# Altium integrated library DX07P024AJ1R1500.IntLib: 1 symbol
Pins are listed as number, name and electrical type; pins without a type are passive.

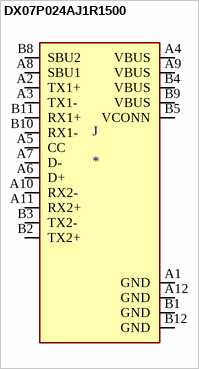
[diagram p0: symbol DX07P024AJ1R1500]

## DX07P024AJ1R1500
designator J
USB-C _USB TYPE-C_ USB 3.1 _USB 3.1 Gen 2, Superspeed+_ Plug Connector 24 Position Board Edge, Straddle Mount; MP: DX07P024AJ1R1500; MF: JAE Electronics; Package: None; Value: *; SnapEDA_Link: https://www.snapeda.com/parts/DX07P024AJ1R1500/JAE%20Electronics/view-part/699541/?ref=snap; Digi-Key_Purchase_URL: https://www.digikey.tw/product-detail/en/jae-electronics/DX07P024AJ1R1500/670-2868-1-ND/6003057?utm_source=snapeda&utm_medium=aggregator&utm_campaign=symbol; Digi-Key_Part_Number: 670-2868-1-ND
footprint JAE_DX07P024AJ1R1500
pins: A1 GND (power), A2 TX1+ (io), A3 TX1- (io), A4 VBUS (power), A5 CC (io), A6 D+ (io), A7 D- (io), A8 SBU1 (io), A9 VBUS (power), A10 RX2- (io), A11 RX2+ (io), A12 GND (power), B1 GND (power), B2 TX2+ (io), B3 TX2- (io), B4 VBUS (power), B5 VCONN (power), B8 SBU2 (io), B9 VBUS (power), B10 RX1- (io), B11 RX1+ (io), B12 GND (power)